# EAGLE library part SF7W008S1A (library SF7W008S1A-SIM)
JAE SIM card holder with lock and card detect switch
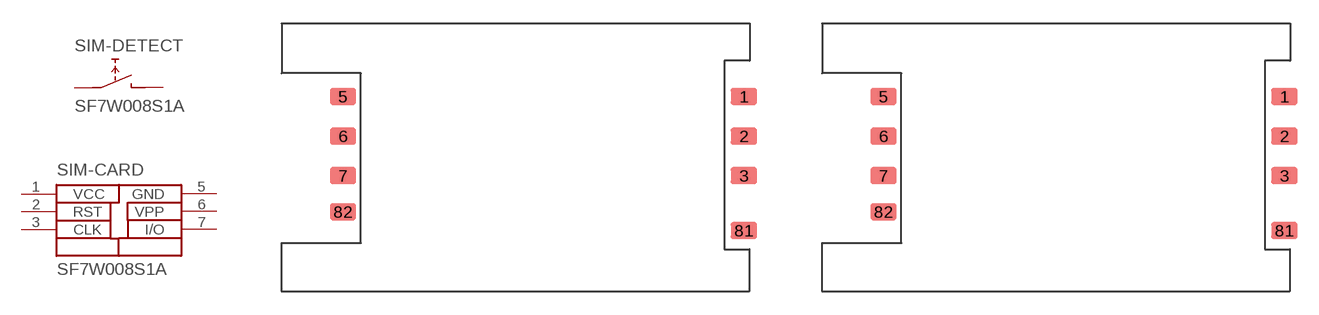
[diagram p0: symbol with the pads of SF7W008S1A; footprints SF7W008S1A, SF7W008S1A-RESTR]

Designator prefix SIM; gates -CARD=SIM_NO_AUX -DETECT=SIM_SW_NO

## SF7W008S1A (OC_DIGIKEY: 670-2337-1-ND)  [SF7W008S1A]
1  -CARD:VCC  pwr
2  -CARD:RST  in
3  -CARD:CLK  in
5  -CARD:GND  sup
6  -CARD:VPP  pwr
7  -CARD:I/O
81  -DETECT:0  pas
82  -DETECT:1  pas

## SF7W008S1A-R (OC_DIGIKEY: 670-2337-1-ND)  [SF7W008S1A-RESTR]
Pads as for SF7W008S1A

## Footprint SF7W008S1A (pad centres in mm)
JAE SF7W008S1A SIM card holder with lock and card detect switch
smd 1.7 x 1.1: 1 12.85,3.9; 2 12.85,1.36; 3 12.85,-1.18; 5 -12.85,3.9; 6 -12.85,1.36; 7 -12.85,-1.18; 81 12.85,-4.7; 82 -12.85,-3.5

## Footprint SF7W008S1A-RESTR (pad centres in mm)
JAE SF7W008S1A SIM card holder with lock and card detect switch - additional restrict areas for SIM contacts
smd 1.7 x 1.1: 1 12.85,3.9; 2 12.85,1.36; 3 12.85,-1.18; 5 -12.85,3.9; 6 -12.85,1.36; 7 -12.85,-1.18; 81 12.85,-4.7; 82 -12.85,-3.5